# Altium footprint library OKmePCBLibrary.PcbLib: 197 footprints (part 2 of 13)
Each footprint in its own frame and in the unit in brackets; x right, y up, seen from the top. Pads: shape width x height; smd on the part's side, far side on the other; paste and mask are expansions set on the pad; w line width, h text height; cw(c..) or ccw(c..) is an arc to the next point about the centre after c.
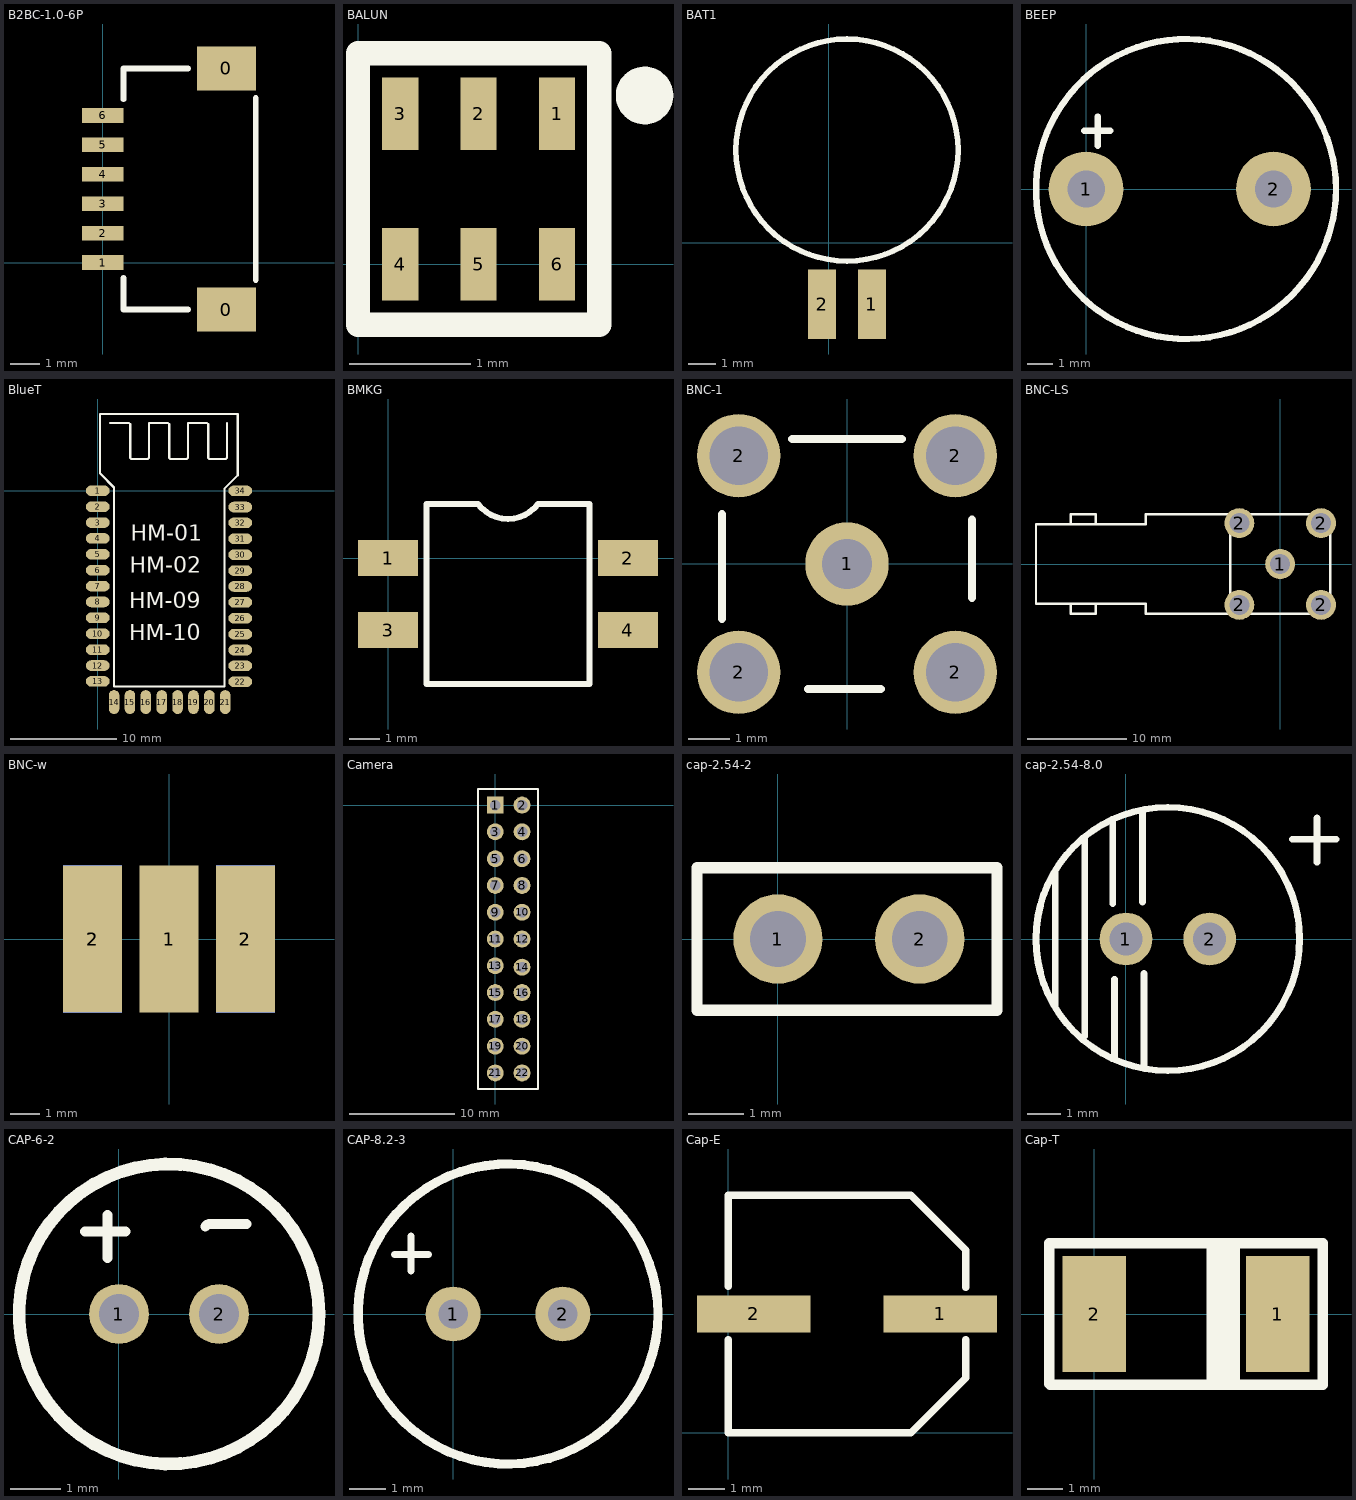
[diagram p1: the footprints below, top view; thin cyan lines are the x and y axes]

## B2BC-1.0-6P [mm]
pads (8):
  rect 2x1.5 smd: 0(4.2,-1.6) 0(4.2,6.6)
  rect 1.4x0.5 smd: 1(0,0) 2(0,1) 3(0,2) 4(0,3) 5(0,4) 6(0,5)
Top Overlay:
  lines w0.2: 0.7,-1.6 2.9,-1.6 ; 0.7,-1.575 0.7,-0.525 ; 0.7,5.55 0.7,6.6 2.9,6.6 ; 5.2,-0.6 5.2,5.6

## BALUN [mm]
pads (6):
  rect 0.3x0.6 smd: 1(1.65,1.25) 2(1,1.25) 3(0.35,1.25) 4(0.35,0) 5(1,0) 6(1.65,0)
Top Overlay:
  circle w0.254: c2.375,1.4 r0.112
  lines w0.2: 0,-0.5 0,1.75 2,1.75 2,-0.5 0,-0.5

## BAT1 [mm]
pads (2):
  rect 1x2.5 smd: 1(1.566,-2.211) 2(-0.234,-2.211)
Top Overlay:
  circle w0.2: c0.666,3.343 r4

## BEEP [mm]
pads (2):
  round 3 hole 1.5: 1(0,0) 2(7.5,0)
Top Overlay:
  circle w0.254: c4,0 r6
  lines w0.254: -0.075,2.325 0.975,2.325 ; 0.475,1.725 0.475,2.9

## BlueT [mm]
pads (34):
  oval 2.254x1 smd: 1(0,0) 2(0,-1.5) 3(0,-3) 4(0,-4.5) 5(0,-6) 6(0,-7.5) 7(0,-9) 8(0,-10.5) 9(0,-12) 10(0,-13.5) 11(0,-15) 12(0,-16.5) 13(0,-18) 22(13.462,-18.034) 23(13.462,-16.534) 24(13.462,-15.034) 25(13.462,-13.534) 26(13.462,-12.034) 27(13.462,-10.534) 28(13.462,-9.034) 29(13.462,-7.534) 30(13.462,-6.034) 31(13.462,-4.534) 32(13.462,-3.034) 33(13.462,-1.534) 34(13.462,-0.011)
  oval 1x2.254 smd: 14(1.543,-19.95) 15(3.043,-19.95) 16(4.543,-19.95) 17(6.043,-19.95) 18(7.543,-19.95) 19(9.043,-19.95) 20(10.543,-19.95) 21(12.043,-19.95)
Top Overlay:
  lines w0.2: 1.162,6.412 2.94,6.412 3.067,6.285 3.067,3.11 3.194,2.983 4.718,2.983 4.845,3.11 4.845,6.412 6.623,6.412 6.75,6.285 6.75,3.11 6.877,2.983 8.401,2.983 8.528,3.11 8.528,6.412 10.306,6.412 10.433,6.285 10.433,3.11 10.56,2.983 12.084,2.983 12.211,3.11 12.211,6.412 ; 0.227,1.632 1.543,0.316 1.543,-18.48 11.957,-18.48 11.957,0.189 13.227,1.459 13.227,7.25 0.227,7.25 0.227,1.632
  text "HM-10" at 2.996,-14.135 h1.52
  text "HM-09" at 2.996,-11.087 h1.52
  text "HM-02" at 3.048,-7.758 h1.52
  text "HM-01" at 3.123,-4.737 h1.52

## BMKG [mm]
pads (4):
  rect 2x1.2 smd: 1(0,0) 2(8,0) 3(0,-2.4) 4(8,-2.4)
Top Overlay:
  lines w0.2: 1.275,-4.2 1.275,1.8 3,1.8 ccw(c4,2.55) 5,1.8 6.725,1.8 6.725,-4.2 1.275,-4.2

## BNC-1 [mm]
pads (5):
  round 2 hole 1.2: 1(0,0)
  round 2 hole 1.4: 2(-2.6,-2.6) 2(-2.6,2.6) 2(2.6,-2.6) 2(2.6,2.6)
Top Overlay:
  lines w0.2: -3,-1.318 -3,1.191 ; -1.318,3 1.318,3 ; -0.937,-3 0.81,-3 ; 3,-0.81 3,1.064

## BNC-LS [mm]
pads (5):
  round 3 hole 2: 1(0,0) 2(-4.1,-4.1) 2(-4.1,4.1) 2(4.1,-4.1) 2(4.1,4.1)
Top Overlay:
  lines w0.25: -21,-4 -21,-5 -18.5,-5 -18.5,-4 ; -21,4 -21,5 -18.5,5 -18.5,4 ; -5,-5 -13.5,-5 -13.5,-4 -24.5,-4 -24.5,4 -13.5,4 -13.5,5 5,5 ; -5,-5 5,-5 5,5 ; -5,-5 -5,0 -5,5 5,5

## BNC-w [mm]
pads (5):
  rect 2x5 smd: 1(0,0) 2(-2.6,0) 2(2.6,0)
  rect 2x5 smd far side: 2(-2.6,0) 2(2.6,0)

## Camera [mm]
pads (22):
  rect 1.6x1.6 hole 1: 1(0,0)
  round 1.6 hole 1: 2(2.54,0) 3(0,-2.54) 4(2.54,-2.54) 5(0,-5.08) 6(2.54,-5.08) 7(0,-7.62) 8(2.54,-7.62) 9(0,-10.16) 10(2.54,-10.16) 11(0,-12.7) 12(2.54,-12.7) 13(0,-15.24) 14(2.54,-15.367) 15(0,-17.78) 16(2.54,-17.78) 17(0,-20.32) 18(2.54,-20.32) 19(0,-22.86) 20(2.54,-22.86) 21(0,-25.4) 22(2.54,-25.4)
Top Overlay:
  lines w0.2: -1.651,-26.924 -1.27,-26.924 4.064,-26.924 4.064,1.524 -1.143,1.524 -1.651,1.524 -1.651,-26.924

## cap-2.54-2 [mm]
pads (2):
  round 1.6 hole 1: 1(0,0) 2(2.54,0)
Top Overlay:
  lines w0.203: -1.45,-1.275 -1.45,1.275 3.925,1.275 3.925,-1.275 -1.45,-1.275

## cap-2.54-8.0 [mm]
pads (2):
  round 1.6 hole 1: 1(0,0) 2(2.54,0)
Top Overlay:
  circle w0.203: c1.27,0 r4
  lines w0.203: -2.15,-2.025 -2.15,2.075 ; -1.25,-2.95 -1.25,3.025 ; -0.4,1.075 -0.4,3.6 ; -0.35,-3.575 -0.35,-1.225 ; 0.5,1.125 0.5,3.825 ; 0.55,-3.875 0.55,-1.05 ; 5.05,3.025 6.375,3.025 ; 5.8,2.325 5.8,3.675

## CAP-6-2 [mm]
pads (2):
  round 1.2 hole 0.8: 1(0,0) 2(2,0)
Top Overlay:
  circle w0.254: c1,0 r3
  lines w0.2: -0.675,1.65 0.125,1.65 ; -0.225,1.125 -0.225,1.975 ; 1.725,1.75 1.75,1.775 ; 1.8,1.8 2.55,1.8

## CAP-8.2-3 [mm]
pads (2):
  round 1.5 hole 0.8: 1(0,0) 2(3,0)
Top Overlay:
  circle w0.254: c1.5,0 r4.1
  lines w0.2: -1.6,1.625 -0.675,1.625 ; -1.15,1.175 -1.15,2.125

## Cap-E [mm]
pads (2):
  rect 3.1x1 smd: 1(5.8,3.25) 2(0.7,3.25)
Top Overlay:
  lines w0.2: 0,2.55 0,0 5,0 6.5,1.5 6.5,2.55 ; 0,4 0,6.5 5,6.5 6.5,5 6.5,3.975

## Cap-T [mm]
pads (2):
  rect 1.8x3.3 smd: 1(5.2,0) 2(0,0)
Top Overlay:
  lines w0.3: -1.275,1.975 -1.275,-1.975 -1.25,-2 6.475,-2 6.475,2 -1.275,2 ; 3.325,2 3.325,-2 3.875,-2 3.975,-1.9 3.975,2 ; 3.625,-1.9 3.625,2 ; 3.825,-2 3.825,1.95